# Altium schematic symbol library converter.SchLib: 61 symbols (part 2 of 3)
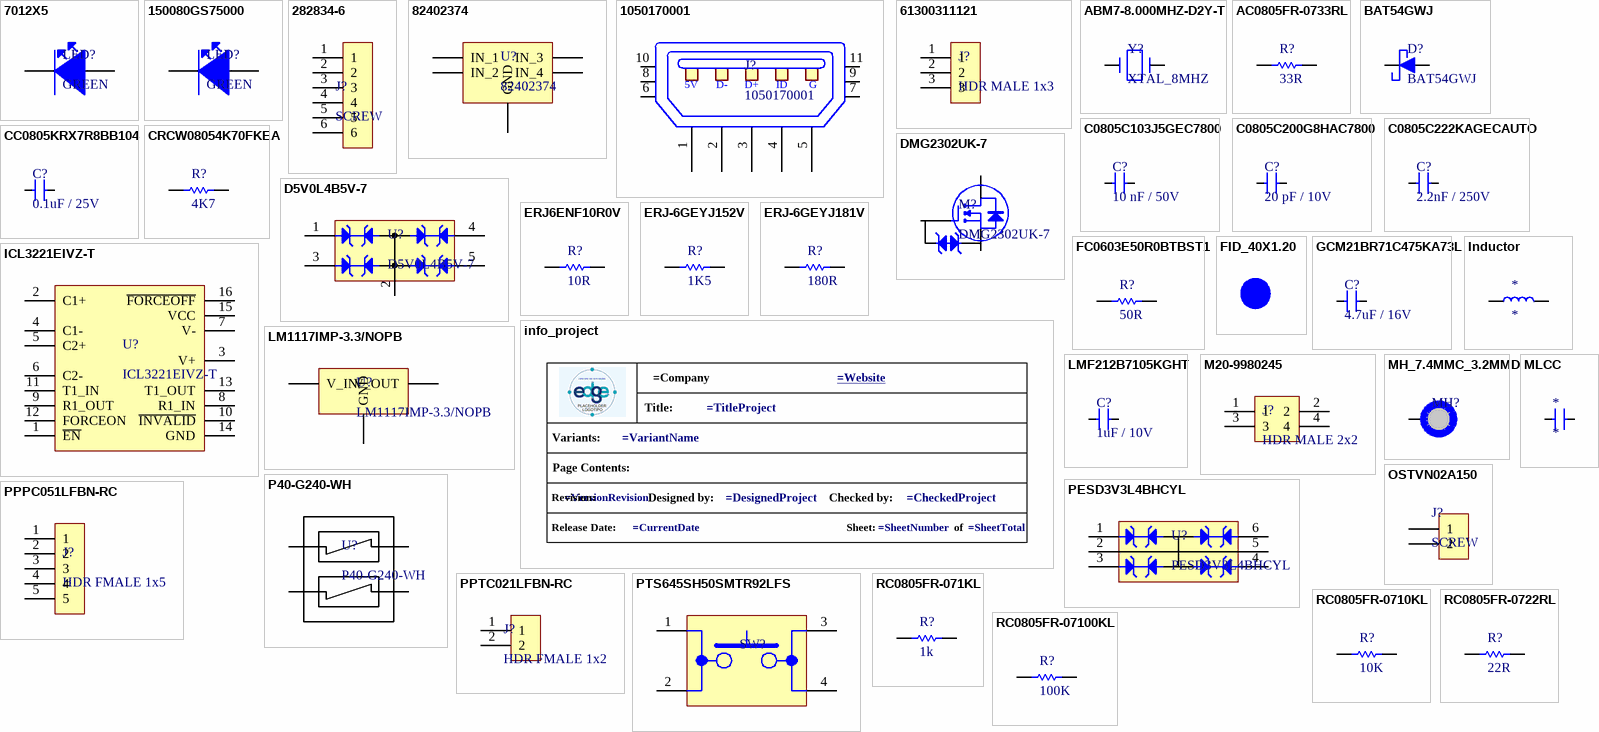
[diagram p2: symbols 7012X5 to RC0805FR-07100KL]

## OSTVN02A150
designator J?, comment SCREW
TERM BLK 2P SIDE 2.54MM; Manufacturer: On-Shore Technology; Manufacturer Part Number: OSTVN02A150; Plating: Brass,Steel; Number of Levels: 1; Number of Positions Per Level: 2; Current: 6A; Voltage: 125V; Wire Gauge (Max): 30AWG; Wire Gauge (Min): 20AWG; Pitch: 0.1inch; Supplier 1: Digi-Key; RoHS: Yes; Category: Terminal Blocks; Stock 1: 47511; Pricing 1: 1=0.92000, 10=0.57400, 25=0.49080, 50=0.44120, 100=0.43200, 250=0.36764, 500=0.34926, 1000=0.31249, 5000=0.24448 (USD); Mount: Through Hole; Number of Pins: 2; Color: Green; Contact Plating: Brass; Housing Material: Thermoplastic; Min Operating Temperature: -30°C; Max Operating Temperature: 105°C; Packaging: Bulk; Termination: Screw; Series: OSTVN; RoHS Compliant: Yes; ComponentLink1URL: https://datasheet.ciiva.com/823/ostvnxxa150-823935.pdf?src-supplier=Digi-Key; ComponentLink1Description: https://datasheet.ciiva.com/823/ostvnxxa150-823935.pdf?src-supplier=Digi-Key; Supplier Part Number 1: ED10561-ND
footprint SCREW
pins: 1, 2

## P40-G240-WH
designator U?
TBU 240MA 40VIMP; Manufacturer: Bourns; Number of Terminals/Pins: 6; Working Voltage: 28V; Number of Circuits: 2; Voltage Rating: 40V; Output Current: 480mA; Quiescent Current: 700uA; Response Time: 200ns; Approvals: UL; Supplier 1: Digi-Key; Manufacturer Part Number: P40-G240-WH; RoHS: Yes; Category: Circuit Protection; Stock 1: 7844; Pricing 1: 1=1.42000, 10=1.26600, 100=0.98670, 500=0.81510, 1000=0.64350 (USD); Mount: Surface Mount; Case/Package: DFN; Number of Pins: 6; Min Operating Temperature: -40°C; Max Operating Temperature: 85°C; Package Quantity: 3000; Packaging: Tape and Reel; Series: TBU®; Current Rating: 240mA; Max Surge Current: 240mA; Max Output Current: 480mA; Termination: SMD/SMT; Voltage Rating (DC): 28V; Length: 4mm; Width: 4mm; Height: 0.85mm; Depth: 4.1mm; REACH SVHC: No SVHC; RoHS Compliant: Yes; ComponentLink1URL: https://datasheet.ciiva.com/329/p40-g-329718.pdf?src-supplier=Digi-Key; ComponentLink1Description: https://datasheet.ciiva.com/329/p40-g-329718.pdf?src-supplier=Digi-Key; ComponentLink2URL: https://datasheet.ciiva.com/4503/p40-g-69647-4503607.pdf?src-supplier=Mouser; ComponentLink2Description: https://datasheet.ciiva.com/4503/p40-g-69647-4503607.pdf?src-supplier=Mouser; ComponentLink3URL: https://datasheet.ciiva.com/1290/337271-1290116.pdf?src-supplier=Element14; ComponentLink3Description: https://datasheet.ciiva.com/1290/337271-1290116.pdf?src-supplier=Element14; ComponentLink4URL: https://datasheet.ciiva.com/329/p40-g-329719.pdf?src-supplier=Digi-Key; ComponentLink4Description: https://datasheet.ciiva.com/329/p40-g-329719.pdf?src-supplier=Digi-Key; ComponentLink5URL: https://datasheet.ciiva.com/329/p40-g-329720.pdf?src-supplier=Digi-Key; ComponentLink5Description: https://datasheet.ciiva.com/329/p40-g-329720.pdf?src-supplier=Digi-Key; ComponentLink6URL: https://datasheet.ciiva.com/3011/p40-g-3011993.pdf?src-supplier=Avnet; ComponentLink6Description: https://datasheet.ciiva.com/3011/p40-g-3011993.pdf?src-supplier=Avnet; Supplier Part Number 1: P40-G240-WHCT-ND
footprint TBU - P40-G240-WH
pins: 1, 3, 4, 6

## PESD3V3L4BHCYL
designator U?
ESD TVS DIODE VRWM - 3V3 / VBR - 6.7-8.5V /; Manufacturer: Nexperia; Supplier 1: Digi-Key; Manufacturer Part Number: PESD3V3L4BHCYL; RoHS: No; Category: TVS Diodes; Stock 1: 14700; Pricing 1: 1=0,39000, 10=0,31400, 25=0,28720, 100=0,21370, 250=0,19368, 500=0,16028, 1000=0,12020, 2500=0,11019, 5000=0,10395 (USD); Supplier Part Number 1: 1727-8586-1-ND
footprint PESD3V3L4BHCYL
pins: 1, 2, 3, 4, 5, 6

## PPPC051LFBN-RC
designator J?, comment HDR FMALE 1x5
HDR FMALE 1x5 100mil; Manufacturer: Sullins; Manufacturer Part Number: PPPC051LFBN-RC; Number of Positions: 5; Connector Type: Header; Pitch: 0.1inch; Supplier 1: Digi-Key; RoHS: Yes; Category: Connectors; Stock 1: 10231; Pricing 1: 1=0.49000, 10=0.45900, 80=0.35188, 440=0.30600, 1000=0.25245, 5000=0.22185, 10000=0.20655 (USD); Mount: Through Hole; Color: Black; Contact Plating: Gold; Contact Material: Bronze; Housing Material: Plastic; Package Quantity: 1000; Number of Rows: 1; Packaging: Bulk; Termination: Solder; Contact Type: Female Socket; Length: 13.2mm; Width: 2.5mm; Height: 8.5mm; Lead Free: Lead Free; RoHS Compliant: Yes; ComponentLink1URL: https://media.digikey.com/pdf/Data%20Sheets/Sullins%20PDFs/Female_Headers.100_DS.pdf?src-supplier=Digi-Key; ComponentLink1Description: https://media.digikey.com/pdf/Data%20Sheets/Sullins%20PDFs/Female_Headers.100_DS.pdf?src-supplier=Digi-Key; ComponentLink2URL: http://www.sullinscorp.com/catalogs/78_Page80-81_HEADER_.100_2.54mm_FEMALE.pdf?src-supplier=Future+Electronics; ComponentLink2Description: http://www.sullinscorp.com/catalogs/78_Page80-81_HEADER_.100_2.54mm_FEMALE.pdf?src-supplier=Future+Electronics; Supplier Part Number 1: S7038-ND
footprint HDR FMALE 1x5
pins: 1, 2, 3, 4, 5

## PPTC021LFBN-RC
designator J?, comment HDR FMALE 1x2
HDR FMALE 1x2  100mil; Manufacturer: Sullins; Manufacturer Part Number: PPTC021LFBN-RC; Number of Positions: 2; Connector Type: Header; Pitch: 0.1inch; Supplier 1: Digi-Key; RoHS: Yes; Category: Connectors; Stock 1: 111670; Pricing 1: 1=0.32000, 10=0.30600, 100=0.21390, 500=0.18332, 1000=0.15278, 5000=0.13095, 10000=0.12222 (USD); Mount: Through Hole; Color: Black; Contact Plating: Tin; Contact Material: Bronze; Housing Material: Plastic; Package Quantity: 1000; Number of Rows: 1; Packaging: Bulk; Termination: Solder; Contact Type: Female Socket; Length: 5.58mm; Width: 2.5mm; Height: 8.5mm; Lead Free: Lead Free; RoHS Compliant: Yes; ComponentLink1URL: https://media.digikey.com/pdf/Data%20Sheets/Sullins%20PDFs/Female_Headers.100_DS.pdf?src-supplier=Digi-Key; ComponentLink1Description: https://media.digikey.com/pdf/Data%20Sheets/Sullins%20PDFs/Female_Headers.100_DS.pdf?src-supplier=Digi-Key; ComponentLink2URL: http://www.sullinscorp.com/catalogs/78_Page80-81_HEADER_.100_2.54mm_FEMALE.pdf?src-supplier=Future+Electronics; ComponentLink2Description: http://www.sullinscorp.com/catalogs/78_Page80-81_HEADER_.100_2.54mm_FEMALE.pdf?src-supplier=Future+Electronics; Supplier Part Number 1: S7000-ND
footprint HDR FMALE 1x2
pins: 1, 2

## PTS645SH50SMTR92LFS
designator SW?
SWITCH TACTILE 0.05A 12V; Manufacturer: ITT C&K; Manufacturer Part Number: PTS645SH50SMTR92LFS; Mechanical Life: 100000Cycles; Actuator Material: Nylon,Polyamide,PA66; Operating Force: 200gf; Throw Configuration: SPST; Current Rating: 50mA; Illumination Type: Non-Illuminated,Illuminated; Switch Function: Off-Mom; Actuator Type: Standard; Supplier 1: Digi-Key; RoHS: Yes; Category: Tactile Switches; Stock 1: 211938; Pricing 1: 1=0,25000, 10=0,24200, 25=0,22960, 100=0,20780, 250=0,18944, 500=0,17610 (USD); Mount: Surface Mount; Case/Package: SMD/SMT; Contact Plating: Silver; Contact Material: Bronze; Color: Black; Min Operating Temperature: -20°C; Max Operating Temperature: 60°C; Packaging: Tape and Reel; Max Voltage Rating (DC): 12V; Termination: Gull Wing; Voltage Rating (DC): 12V; Package Quantity: 1000; Max Current Rating: 50mA; Orientation: Straight; Series: PTS645; Length: 6mm; Depth: 9mm; Lead Free: Lead Free; REACH SVHC: No SVHC; ComponentLink1URL: https://datasheet.ciiva.com/29903/getdatasheetpartid-773702-29903807.pdf?src-supplier=Verical; ComponentLink1Description: https://datasheet.ciiva.com/29903/getdatasheetpartid-773702-29903807.pdf?src-supplier=Verical; ComponentLink2URL: https://datasheet.ciiva.com/14920/pts645-14920741.pdf?src-supplier=Digi-Key; ComponentLink2Description: https://datasheet.ciiva.com/14920/pts645-14920741.pdf?src-supplier=Digi-Key; ComponentLink3URL: https://datasheet.ciiva.com/22637/1707731-22637356.pdf?src-supplier=Element14; ComponentLink3Description: https://datasheet.ciiva.com/22637/1707731-22637356.pdf?src-supplier=Element14; Supplier Part Number 1: CKN9085CT-ND
footprint PTS645SH50SMTR92-LFS
pins: 1, 2, 3, 4

## RC0805FR-071KL
designator R?, comment 1k
RES - 1K 1/8W 0805 1%; Manufacturer: Yageo; Manufacturer Part Number: RC0805FR-071KL; Resistance: 1kR; Temperature Coefficient: 100ppm/°C; Voltage Rating (DC): 150V; Power Rating: 125mW; Supplier 1: Digi-Key; RoHS: Yes; Category: Chip SMD Resistors; Stock 1: 7991149; Pricing 1: 1=0,10000, 10=0,04200, 100=0,01690, 1000=0,00759, 2500=0,00659 (USD); Case/Package: 0805; Number of Pins: 2; Case Code (Metric): 2012; Case Code (Imperial): 0805; Size Code: 0805; Min Operating Temperature: -55°C; Max Operating Temperature: 155°C; Tolerance: 1%; Resistor Type: Thick Film; Packaging: Tape and Reel; Package Quantity: 1; Voltage Rating: 150V; Number of Terminations: 2; Termination: SMD/SMT; Max Power Dissipation: 125mW; Features: Moisture Resistant; Series: RC; Resistance Tolerance: 1%; Construction: Rectangular; Length: 0.079inch; Width: 0.049inch; Height: 0.024inch; Depth: 1.25mm; REACH SVHC: Unknown; Lead Free: Lead Free; RoHS Compliant: Yes; Military Standard: Not; ComponentLink1URL: https://datasheet.ciiva.com/46385/444164-46385020.pdf?src-supplier=Element14; ComponentLink1Description: https://datasheet.ciiva.com/46385/444164-46385020.pdf?src-supplier=Element14; ComponentLink2URL: https://datasheet.ciiva.com/2456/pyu-r-int-thick-7-2456975.pdf?src-supplier=Digi-Key; ComponentLink2Description: https://datasheet.ciiva.com/2456/pyu-r-int-thick-7-2456975.pdf?src-supplier=Digi-Key; ComponentLink3URL: https://datasheet.ciiva.com/2456/pyu-r-int-thick-7-2456976.pdf?src-supplier=Digi-Key; ComponentLink3Description: https://datasheet.ciiva.com/2456/pyu-r-int-thick-7-2456976.pdf?src-supplier=Digi-Key; ComponentLink4URL: https://datasheet.ciiva.com/2456/pyu-r-int-thick-7-2456977.pdf?src-supplier=Digi-Key; ComponentLink4Description: https://datasheet.ciiva.com/2456/pyu-r-int-thick-7-2456977.pdf?src-supplier=Digi-Key; ComponentLink5URL: https://datasheet.ciiva.com/16850/rc0805-16850409.pdf?src-supplier=Future+Electronics; ComponentLink5Description: https://datasheet.ciiva.com/16850/rc0805-16850409.pdf?src-supplier=Future+Electronics; ComponentLink6URL: https://datasheet.ciiva.com/7941/1686128-7941719.pdf?src-supplier=Element14; ComponentLink6Description: https://datasheet.ciiva.com/7941/1686128-7941719.pdf?src-supplier=Element14; Supplier Part Number 1: 311-1.00KCRCT-ND
footprint R0805
pins: 1, 2

## RC0805FR-0710KL
designator R?, comment 10K
RES - 10K  1/8W 0805 1%; Manufacturer: Yageo; Manufacturer Part Number: RC0805FR-0710KL; Resistance: 10kR; Temperature Coefficient: 100ppm/°C; Power Rating: 125mW; Voltage Rating: 150V; Supplier 1: Digi-Key; RoHS: Yes; Category: Chip SMD Resistors; Stock 1: 5866675; Pricing 1: 1=0,10000, 10=0,04200, 100=0,01690, 1000=0,00759, 2500=0,00659 (USD); Case/Package: 0805; Case Code (Imperial): 0805; Case Code (Metric): 2012; Size Code: 0805; Min Operating Temperature: -55°C; Max Operating Temperature: 155°C; Tolerance: 1%; Resistor Type: Thick Film; Packaging: Tape and Reel; Package Quantity: 1; Termination: SMD/SMT; Number of Terminations: 2; Max Power Dissipation: 125mW; Features: Moisture Resistant; Series: RC; Construction: Rectangular; Resistance Tolerance: 1%; Technology: THICK FILM; Length: 2mm; Width: 0.049inch; Height: 0.024inch; Depth: 1.25mm; REACH SVHC: Unknown; Military Standard: Not; Lead Free: Lead Free; RoHS Compliant: Yes; ComponentLink1URL: https://datasheet.ciiva.com/11808/0900766b8106beab-11808151.pdf?src-supplier=RSComponents; ComponentLink1Description: https://datasheet.ciiva.com/11808/0900766b8106beab-11808151.pdf?src-supplier=RSComponents; ComponentLink2URL: https://datasheet.ciiva.com/12669/rc0805-12669688.pdf?src-supplier=Mouser; ComponentLink2Description: https://datasheet.ciiva.com/12669/rc0805-12669688.pdf?src-supplier=Mouser; ComponentLink3URL: https://datasheet.ciiva.com/2456/pyu-r-int-thick-7-2456974.pdf?src-supplier=Digi-Key; ComponentLink3Description: https://datasheet.ciiva.com/2456/pyu-r-int-thick-7-2456974.pdf?src-supplier=Digi-Key; ComponentLink4URL: https://datasheet.ciiva.com/2456/pyu-r-int-thick-7-2456972.pdf?src-supplier=Digi-Key; ComponentLink4Description: https://datasheet.ciiva.com/2456/pyu-r-int-thick-7-2456972.pdf?src-supplier=Digi-Key; ComponentLink5URL: https://datasheet.ciiva.com/2456/pyu-r-int-thick-7-2456973.pdf?src-supplier=Digi-Key; ComponentLink5Description: https://datasheet.ciiva.com/2456/pyu-r-int-thick-7-2456973.pdf?src-supplier=Digi-Key; ComponentLink6URL: https://datasheet.ciiva.com/16747/rc0805-16747087.pdf?src-supplier=Future+Electronics; ComponentLink6Description: https://datasheet.ciiva.com/16747/rc0805-16747087.pdf?src-supplier=Future+Electronics; ComponentLink7URL: https://datasheet.ciiva.com/46447/444164-46447563.pdf?src-supplier=Element14; ComponentLink7Description: https://datasheet.ciiva.com/46447/444164-46447563.pdf?src-supplier=Element14; Supplier Part Number 1: 311-10.0KCRCT-ND
footprint R0805
pins: 1, 2

## RC0805FR-0722RL
designator R?, comment 22R
RES - 22R 1/8W 0805 1%; Manufacturer: Yageo; Manufacturer Part Number: RC0805FR-0722RL; Temperature Coefficient: 100ppm/°C; Power Rating: 125mW; Voltage Rating: 150V; Supplier 1: Digi-Key; RoHS: Yes; Category: Chip SMD Resistors; Stock 1: 534010; Pricing 1: 1=0,10000, 10=0,04200, 100=0,01690, 1000=0,00759, 2500=0,00659 (USD); Case/Package: 0805; Case Code (Metric): 2012; Case Code (Imperial): 0805; Min Operating Temperature: -55°C; Max Operating Temperature: 155°C; Resistor Type: Thick Film; Resistance: 22R; Tolerance: 1%; Packaging: Tape and Reel; Package Quantity: 1; Number of Terminations: 2; Termination: SMD/SMT; Max Power Dissipation: 125mW; Working Voltage: 150V; Features: Moisture Resistant; Series: RC; Resistance Tolerance: 1%; Construction: Rectangular; Technology: THICK FILM; Length: 0.079inch; Width: 0.049inch; Height: 0.024inch; Depth: 1.25mm; RoHS Compliant: Yes; REACH SVHC: Unknown; Military Standard: Not; Lead Free: Lead Free; ComponentLink1URL: https://datasheet.ciiva.com/11819/0900766b8106beab-11819837.pdf?src-supplier=RSComponents; ComponentLink1Description: https://datasheet.ciiva.com/11819/0900766b8106beab-11819837.pdf?src-supplier=RSComponents; ComponentLink2URL: https://datasheet.ciiva.com/46447/444164-46447574.pdf?src-supplier=Element14; ComponentLink2Description: https://datasheet.ciiva.com/46447/444164-46447574.pdf?src-supplier=Element14; ComponentLink3URL: https://datasheet.ciiva.com/2457/pyu-r-int-thick-7-2457045.pdf?src-supplier=Digi-Key; ComponentLink3Description: https://datasheet.ciiva.com/2457/pyu-r-int-thick-7-2457045.pdf?src-supplier=Digi-Key; ComponentLink4URL: https://datasheet.ciiva.com/2457/pyu-r-int-thick-7-2457046.pdf?src-supplier=Digi-Key; ComponentLink4Description: https://datasheet.ciiva.com/2457/pyu-r-int-thick-7-2457046.pdf?src-supplier=Digi-Key; ComponentLink5URL: https://datasheet.ciiva.com/2457/pyu-r-int-thick-7-2457044.pdf?src-supplier=Digi-Key; ComponentLink5Description: https://datasheet.ciiva.com/2457/pyu-r-int-thick-7-2457044.pdf?src-supplier=Digi-Key; ComponentLink6URL: https://datasheet.ciiva.com/12667/rc0805-12667371.pdf?src-supplier=Mouser; ComponentLink6Description: https://datasheet.ciiva.com/12667/rc0805-12667371.pdf?src-supplier=Mouser; Supplier Part Number 1: 311-22.0CRCT-ND
footprint R0805
pins: 1, 2

## RC0805FR-07100KL
designator R?, comment 100K
RES - 100K 1/8W 0805 1%; Manufacturer: Yageo; Manufacturer Part Number: RC0805FR-07100KL; Resistance: 100kR; Temperature Coefficient: 100ppm/°C; Power Rating: 125mW; Voltage Rating (DC): 150V; Supplier 1: Digi-Key; RoHS: Yes; Category: Chip SMD Resistors; Stock 1: 650822; Pricing 1: 1=0,10000, 10=0,04200, 100=0,01690, 1000=0,00759, 2500=0,00659 (USD); Case/Package: 0805; Number of Pins: 2; Case Code (Metric): 2012; Case Code (Imperial): 0805; Size Code: 0805; Min Operating Temperature: -55°C; Max Operating Temperature: 155°C; Resistor Type: Thick Film; Tolerance: 1%; Packaging: Tape and Reel; Voltage Rating: 150V; Package Quantity: 1; Number of Terminations: 2; Termination: SMD/SMT; Max Power Dissipation: 125mW; Features: Moisture Resistant; Series: RC; Construction: Rectangular; Resistance Tolerance: 1%; Technology: THICK FILM; Length: 2mm; Width: 0.049inch; Height: 0.024inch; Depth: 1.25mm; Lead Pitch: 0.4mm; REACH SVHC: Unknown; Lead Free: Lead Free; RoHS Compliant: Yes; Military Standard: Not; ComponentLink1URL: https://datasheet.ciiva.com/11808/0900766b8106beab-11808858.pdf?src-supplier=RSComponents; ComponentLink1Description: https://datasheet.ciiva.com/11808/0900766b8106beab-11808858.pdf?src-supplier=RSComponents; ComponentLink2URL: https://datasheet.ciiva.com/7941/1686128-7941677.pdf?src-supplier=Element14; ComponentLink2Description: https://datasheet.ciiva.com/7941/1686128-7941677.pdf?src-supplier=Element14; ComponentLink3URL: https://datasheet.ciiva.com/7660/38627-7660796.pdf?src-supplier=Element14; ComponentLink3Description: https://datasheet.ciiva.com/7660/38627-7660796.pdf?src-supplier=Element14; ComponentLink4URL: https://datasheet.ciiva.com/22747/444164-22747534.pdf?src-supplier=Element14; ComponentLink4Description: https://datasheet.ciiva.com/22747/444164-22747534.pdf?src-supplier=Element14; ComponentLink5URL: https://datasheet.ciiva.com/2457/pyu-r-int-thick-7-2457018.pdf?src-supplier=Digi-Key; ComponentLink5Description: https://datasheet.ciiva.com/2457/pyu-r-int-thick-7-2457018.pdf?src-supplier=Digi-Key; ComponentLink6URL: https://datasheet.ciiva.com/2457/pyu-r-int-thick-7-2457019.pdf?src-supplier=Digi-Key; ComponentLink6Description: https://datasheet.ciiva.com/2457/pyu-r-int-thick-7-2457019.pdf?src-supplier=Digi-Key; ComponentLink7URL: https://datasheet.ciiva.com/2457/pyu-r-int-thick-7-2457017.pdf?src-supplier=Digi-Key; ComponentLink7Description: https://datasheet.ciiva.com/2457/pyu-r-int-thick-7-2457017.pdf?src-supplier=Digi-Key; ComponentLink8URL: https://datasheet.ciiva.com/12667/rc0805-12667001.pdf?src-supplier=Mouser; ComponentLink8Description: https://datasheet.ciiva.com/12667/rc0805-12667001.pdf?src-supplier=Mouser; ComponentLink9URL: https://datasheet.ciiva.com/7941/1697719-7941676.pdf?src-supplier=Element14; ComponentLink9Description: https://datasheet.ciiva.com/7941/1697719-7941676.pdf?src-supplier=Element14; ComponentLink10URL: https://datasheet.ciiva.com/7941/1697719-7941678.pdf?src-supplier=Element14; ComponentLink10Description: https://datasheet.ciiva.com/7941/1697719-7941678.pdf?src-supplier=Element14; ComponentLink11URL: https://datasheet.ciiva.com/16747/rc0805-16747226.pdf?src-supplier=Future+Electronics; ComponentLink11Description: https://datasheet.ciiva.com/16747/rc0805-16747226.pdf?src-supplier=Future+Electronics; Supplier Part Number 1: 311-100KCRCT-ND
footprint R0805
pins: 1, 2

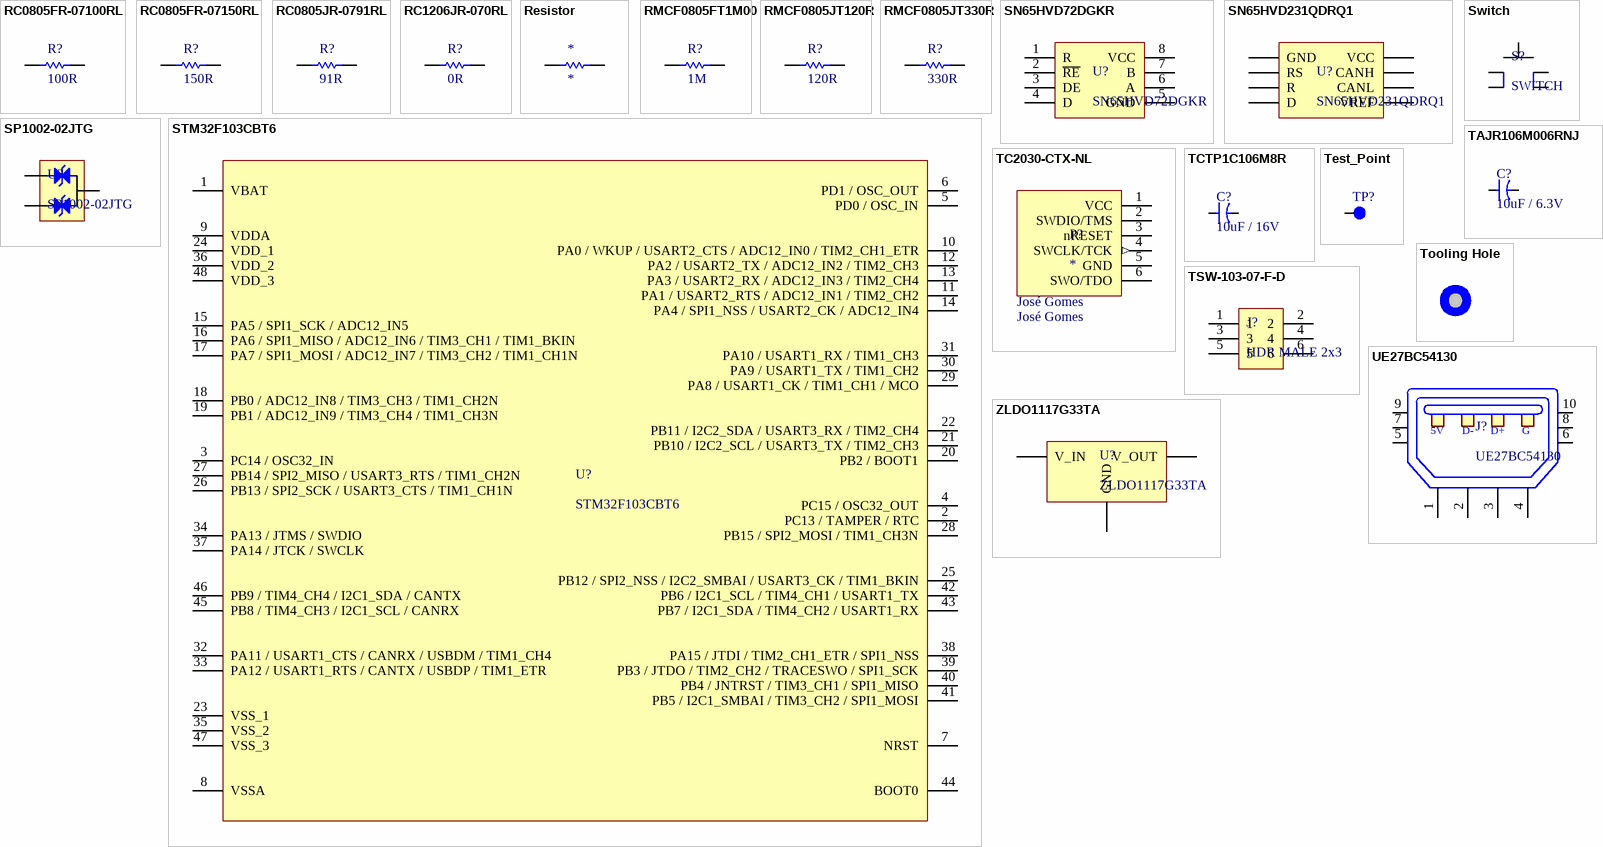
[diagram p1: symbols RC0805FR-07100RL to ZLDO1117G33TA]

## RC0805FR-07100RL
designator R?, comment 100R
RES - 100R 1/8W 0805 1%; Manufacturer: Yageo; Manufacturer Part Number: RC0805FR-07100RL; Temperature Coefficient: 100ppm/°C; Voltage Rating (DC): 150V; Power Rating: 125mW; Application(s): HIGH RELIABILITY; Supplier 1: Digi-Key; RoHS: Yes; Category: Chip SMD Resistors; Stock 1: 881028; Pricing 1: 1=0,10000, 10=0,04200, 100=0,01690, 1000=0,00759, 2500=0,00659 (USD); Case/Package: 0805; Number of Pins: 2; Case Code (Imperial): 0805; Case Code (Metric): 2012; Weight: 0.000917oz; Min Operating Temperature: -55°C; Max Operating Temperature: 155°C; Resistance: 100R; Tolerance: 1%; Resistor Type: Thick Film; Packaging: Cut Tape; Voltage Rating: 150V; Package Quantity: 5000; Termination: SMD/SMT; Number of Terminations: 2; Max Power Dissipation: 125mW; Features: Moisture Resistant; Type: General Purpose; Series: RC; Technology: THICK FILM; Length: 2mm; Width: 1.25mm; Height: 0.5mm; Depth: 1.25mm; Lead Pitch: 0.4mm; REACH SVHC: Unknown; Lead Free: Lead Free; Military Standard: Not; RoHS Compliant: Yes; ComponentLink1URL: https://datasheet.ciiva.com/11808/0900766b8106beab-11808877.pdf?src-supplier=RSComponents; ComponentLink1Description: https://datasheet.ciiva.com/11808/0900766b8106beab-11808877.pdf?src-supplier=RSComponents; ComponentLink2URL: https://datasheet.ciiva.com/7941/1697719-7941680.pdf?src-supplier=Element14; ComponentLink2Description: https://datasheet.ciiva.com/7941/1697719-7941680.pdf?src-supplier=Element14; ComponentLink3URL: https://datasheet.ciiva.com/7941/1686128-7941679.pdf?src-supplier=Element14; ComponentLink3Description: https://datasheet.ciiva.com/7941/1686128-7941679.pdf?src-supplier=Element14; ComponentLink4URL: https://datasheet.ciiva.com/7660/38627-7660797.pdf?src-supplier=Element14; ComponentLink4Description: https://datasheet.ciiva.com/7660/38627-7660797.pdf?src-supplier=Element14; ComponentLink5URL: https://datasheet.ciiva.com/22747/444164-22747535.pdf?src-supplier=Element14; ComponentLink5Description: https://datasheet.ciiva.com/22747/444164-22747535.pdf?src-supplier=Element14; ComponentLink6URL: https://datasheet.ciiva.com/46447/444164-46447562.pdf?src-supplier=Element14; ComponentLink6Description: https://datasheet.ciiva.com/46447/444164-46447562.pdf?src-supplier=Element14; ComponentLink7URL: https://datasheet.ciiva.com/2456/pyu-r-int-thick-7-2456988.pdf?src-supplier=Digi-Key; ComponentLink7Description: https://datasheet.ciiva.com/2456/pyu-r-int-thick-7-2456988.pdf?src-supplier=Digi-Key; ComponentLink8URL: https://datasheet.ciiva.com/2456/pyu-r-int-thick-7-2456989.pdf?src-supplier=Digi-Key; ComponentLink8Description: https://datasheet.ciiva.com/2456/pyu-r-int-thick-7-2456989.pdf?src-supplier=Digi-Key; ComponentLink9URL: https://datasheet.ciiva.com/2456/pyu-r-int-thick-7-2456987.pdf?src-supplier=Digi-Key; ComponentLink9Description: https://datasheet.ciiva.com/2456/pyu-r-int-thick-7-2456987.pdf?src-supplier=Digi-Key; ComponentLink10URL: https://datasheet.ciiva.com/17082/rc0805-17082697.pdf?src-supplier=Future+Electronics; ComponentLink10Description: https://datasheet.ciiva.com/17082/rc0805-17082697.pdf?src-supplier=Future+Electronics; Supplier Part Number 1: 311-100CRCT-ND
footprint R0805
pins: 1, 2

## RC0805FR-07150RL
designator R?, comment 150R
RES - 150R 1/8W 0805 1%; Manufacturer: Yageo; Manufacturer Part Number: RC0805FR-07150RL; Power Rating: 125mW; Voltage Rating: 150V; Temperature Coefficient: 100ppm/°C; Supplier 1: Digi-Key; RoHS: Yes; Category: Chip SMD Resistors; Stock 1: 494590; Pricing 1: 1=0,10000, 10=0,04200, 100=0,01690, 1000=0,00759, 2500=0,00659 (USD); Case/Package: 0805; Number of Pins: 2; Case Code (Metric): 2012; Case Code (Imperial): 0805; Size Code: 0805; Min Operating Temperature: -55°C; Max Operating Temperature: 155°C; Resistance: 150R; Tolerance: 1%; Voltage Rating (DC): 150V; Package Quantity: 1; Packaging: Tape and Reel; Resistor Type: Thick Film; Number of Terminations: 2; Termination: SMD/SMT; Max Power Dissipation: 125mW; Features: Moisture Resistant; Series: RC; Resistance Tolerance: 1%; Technology: THICK FILM; Construction: Rectangular; Length: 2mm; Width: 0.049inch; Height: 0.024inch; Depth: 1.25mm; REACH SVHC: Unknown; Military Standard: Not; Lead Free: Lead Free; RoHS Compliant: Yes; ComponentLink1URL: https://datasheet.ciiva.com/11819/0900766b8106beab-11819782.pdf?src-supplier=RSComponents; ComponentLink1Description: https://datasheet.ciiva.com/11819/0900766b8106beab-11819782.pdf?src-supplier=RSComponents; ComponentLink2URL: https://datasheet.ciiva.com/2456/pyu-r-int-thick-7-2456999.pdf?src-supplier=Digi-Key; ComponentLink2Description: https://datasheet.ciiva.com/2456/pyu-r-int-thick-7-2456999.pdf?src-supplier=Digi-Key; ComponentLink3URL: https://datasheet.ciiva.com/2457/pyu-r-int-thick-7-2457000.pdf?src-supplier=Digi-Key; ComponentLink3Description: https://datasheet.ciiva.com/2457/pyu-r-int-thick-7-2457000.pdf?src-supplier=Digi-Key; ComponentLink4URL: https://datasheet.ciiva.com/2457/pyu-r-int-thick-7-2457001.pdf?src-supplier=Digi-Key; ComponentLink4Description: https://datasheet.ciiva.com/2457/pyu-r-int-thick-7-2457001.pdf?src-supplier=Digi-Key; ComponentLink5URL: https://datasheet.ciiva.com/12668/rc0805-12668251.pdf?src-supplier=Mouser; ComponentLink5Description: https://datasheet.ciiva.com/12668/rc0805-12668251.pdf?src-supplier=Mouser; ComponentLink6URL: https://datasheet.ciiva.com/46447/444164-46447566.pdf?src-supplier=Element14; ComponentLink6Description: https://datasheet.ciiva.com/46447/444164-46447566.pdf?src-supplier=Element14; ComponentLink7URL: https://datasheet.ciiva.com/7660/38627-7660798.pdf?src-supplier=Element14; ComponentLink7Description: https://datasheet.ciiva.com/7660/38627-7660798.pdf?src-supplier=Element14; Supplier Part Number 1: 311-150CRCT-ND
footprint R0805
pins: 1, 2

## RC0805JR-0791RL
designator R?, comment 91R
RES - 91R 1/8W 0805 5%; Manufacturer: Yageo; Manufacturer Part Number: RC0805JR-0791RL; Power Rating: 125mW; Voltage Rating: 150V; Temperature Coefficient: 100ppm/°C; Supplier 1: Digi-Key; RoHS: Yes; Category: Chip SMD Resistors; Stock 1: 135579; Pricing 1: 1=0,10000, 10=0,03600, 100=0,01450, 1000=0,00652, 2500=0,00566 (USD); Case/Package: 0805; Case Code (Imperial): 0805; Case Code (Metric): 2012; Weight: 0.000194oz; Size Code: 0805; Min Operating Temperature: -55°C; Max Operating Temperature: 155°C; Resistance: 91R; Tolerance: 5%; Packaging: Tape and Reel; Termination: SMD/SMT; Resistor Type: Thick Film; Voltage Rating (DC): 150V; Features: Moisture Resistant; Series: RC; Max Power Dissipation: 125mW; Number of Terminations: 2; Construction: Rectangular; Length: 2mm; Width: 1.25mm; Height: 0.5mm; Depth: 1.25mm; Military Standard: Not; Lead Free: Lead Free; RoHS Compliant: Yes; ComponentLink1URL: https://datasheet.ciiva.com/5562/rc0805-5562847.pdf?src-supplier=Mouser; ComponentLink1Description: https://datasheet.ciiva.com/5562/rc0805-5562847.pdf?src-supplier=Mouser; ComponentLink2URL: https://datasheet.ciiva.com/16745/rc0805-16745695.pdf?src-supplier=Future+Electronics; ComponentLink2Description: https://datasheet.ciiva.com/16745/rc0805-16745695.pdf?src-supplier=Future+Electronics; Supplier Part Number 1: 311-91ARCT-ND
footprint R0805
pins: 1, 2

## RC1206JR-070RL
designator R?, comment 0R
RES - 0R 1/4W 1206 5%; Manufacturer: Yageo; Manufacturer Part Number: RC1206JR-070RL; Resistance: 0mR; Power Rating: 250mW; Voltage Rating: 200V; Temperature Coefficient: 200ppm/°C; Supplier 1: Digi-Key; RoHS: Yes; Category: Chip SMD Resistors; Stock 1: 6773822; Pricing 1: 1=0.10000, 10=0.05500, 25=0.04000, 50=0.03040, 100=0.02240, 250=0.01712, 500=0.01368, 1000=0.01007 (USD); Case/Package: 1206; Contact Plating: Tin,Matte; Case Code (Metric): 3216; Case Code (Imperial): 1206; Size Code: 1206; Min Operating Temperature: -55°C; Max Operating Temperature: 155°C; Resistor Type: Thick Film,Carbon Film; Tolerance: 5%; Packaging: Tape and Reel; Package Quantity: 5000; Number of Terminations: 2; Termination: SMD/SMT; Max Power Dissipation: 250mW; Series: RC1206; Resistance Tolerance: 5%; Construction: Rectangular; Technology: THICK FILM; Length: 3.1mm; Width: 0.063inch; Height: 0.026inch; Depth: 1.6mm; Radiation Hardening: No; REACH SVHC: Unknown; Military Standard: Not; Lead Free: Lead Free; RoHS Compliant: Yes; ComponentLink1URL: https://datasheet.ciiva.com/11808/0900766b80c6630a-11808156.pdf?src-supplier=RSComponents; ComponentLink1Description: https://datasheet.ciiva.com/11808/0900766b80c6630a-11808156.pdf?src-supplier=RSComponents; ComponentLink2URL: https://datasheet.ciiva.com/29181/402222-da-01-en-smd-widerstand-0-ohm-1206-29181568.pdf?src-supplier=Conrad; ComponentLink2Description: https://datasheet.ciiva.com/29181/402222-da-01-en-smd-widerstand-0-ohm-1206-29181568.pdf?src-supplier=Conrad; ComponentLink3URL: https://datasheet.ciiva.com/2458/pyu-rc1206-51-rohs-l-4-2458668.pdf?src-supplier=Digi-Key; ComponentLink3Description: https://datasheet.ciiva.com/2458/pyu-rc1206-51-rohs-l-4-2458668.pdf?src-supplier=Digi-Key; ComponentLink4URL: https://datasheet.ciiva.com/2458/pyu-rc1206-51-rohs-l-4-2458669.pdf?src-supplier=Digi-Key; ComponentLink4Description: https://datasheet.ciiva.com/2458/pyu-rc1206-51-rohs-l-4-2458669.pdf?src-supplier=Digi-Key; ComponentLink5URL: https://datasheet.ciiva.com/2458/pyu-rc1206-51-rohs-l-4-2458670.pdf?src-supplier=Digi-Key; ComponentLink5Description: https://datasheet.ciiva.com/2458/pyu-rc1206-51-rohs-l-4-2458670.pdf?src-supplier=Digi-Key; ComponentLink6URL: https://datasheet.ciiva.com/7857/1692832-7857421.pdf?src-supplier=Element14; ComponentLink6Description: https://datasheet.ciiva.com/7857/1692832-7857421.pdf?src-supplier=Element14; ComponentLink7URL: https://datasheet.ciiva.com/17035/pyu-rc1206-51-rohs-l-4-17035512.pdf?src-supplier=Future+Electronics; ComponentLink7Description: https://datasheet.ciiva.com/17035/pyu-rc1206-51-rohs-l-4-17035512.pdf?src-supplier=Future+Electronics; ComponentLink8URL: https://datasheet.ciiva.com/46445/444357-46445719.pdf?src-supplier=Element14; ComponentLink8Description: https://datasheet.ciiva.com/46445/444357-46445719.pdf?src-supplier=Element14; ComponentLink9URL: https://datasheet.ciiva.com/7857/1692832-7857422.pdf?src-supplier=Element14; ComponentLink9Description: https://datasheet.ciiva.com/7857/1692832-7857422.pdf?src-supplier=Element14; ComponentLink10URL: https://datasheet.ciiva.com/7983/444357-7983807.pdf?src-supplier=Element14; ComponentLink10Description: https://datasheet.ciiva.com/7983/444357-7983807.pdf?src-supplier=Element14; ComponentLink11URL: https://datasheet.ciiva.com/22747/1692832-22747541.pdf?src-supplier=Element14; ComponentLink11Description: https://datasheet.ciiva.com/22747/1692832-22747541.pdf?src-supplier=Element14; Supplier Part Number 1: 311-0.0ERCT-ND
footprint R1206
pins: 1, 2

## Resistor
designator *
pins: 1, 2

## RMCF0805FT1M00
designator R?, comment 1M
RES - 1M 1/8W 0805 1%; Manufacturer: Stackpole Electronics; Manufacturer Part Number: RMCF0805FT1M00; Resistance: 1MR; Power Rating: 125mW; Temperature Coefficient: 100ppm/°C; Supplier 1: Digi-Key; RoHS: Yes; Category: Chip SMD Resistors; Stock 1: 412220; Pricing 1: 1=0,10000, 10=0,02700, 100=0,01090, 1000=0,00488, 2500=0,00423 (USD); Mount: Surface Mount; Case/Package: 0805; Case Code (Metric): 2012; Case Code (Imperial): 0805; Contact Plating: Tin,Matte; Size Code: 0805; Min Operating Temperature: -55°C; Max Operating Temperature: 155°C; Tolerance: 1%; Packaging: Tape and Reel; Resistor Type: Thick Film; Number of Terminations: 2; Max Power Dissipation: 125mW; Features: Automotive AEC-Q200; Series: RMCF; Construction: Rectangular; Length: 2mm; Width: 0.049inch; Height: 0.026inch; Depth: 1.25mm; Radiation Hardening: No; Military Standard: Not; Lead Free: Lead Free; RoHS Compliant: Yes; ComponentLink1URL: http://components.arrow.com/part/dataview/50575311S7171767N1174?src-supplier=Arrow+Electronics; ComponentLink1Description: http://components.arrow.com/part/dataview/50575311S7171767N1174?src-supplier=Arrow+Electronics; ComponentLink2URL: https://www.seielect.com/catalog/SEI-Packaging.pdf?src-supplier=Digi-Key; ComponentLink2Description: https://www.seielect.com/catalog/SEI-Packaging.pdf?src-supplier=Digi-Key; ComponentLink3URL: http://www.seielect.com/Catalog/SEI-rmc.pdf?src-supplier=Future+Electronics; ComponentLink3Description: http://www.seielect.com/Catalog/SEI-rmc.pdf?src-supplier=Future+Electronics; ComponentLink4URL: https://www.seielect.com/catalog/SEI-RMCF_RMCP.pdf?src-supplier=Avnet; ComponentLink4Description: https://www.seielect.com/catalog/SEI-RMCF_RMCP.pdf?src-supplier=Avnet; ComponentLink5URL: https://www.verical.com/server-webapp/html/getDatasheet?partID=366460&src-supplier=Verical; ComponentLink5Description: https://www.verical.com/server-webapp/html/getDatasheet?partID=366460&src-supplier=Verical; Supplier Part Number 1: RMCF0805FT1M00CT-ND
footprint R0805
pins: 1, 2

## RMCF0805JT120R
designator R?, comment 120R
RES - 120R 1/8W 0805 5%; Manufacturer: Stackpole Electronics; Manufacturer Part Number: RMCF0805JT120R; Max Power Dissipation: 125mW; Temperature Coefficient: 200ppm/°C; Supplier 1: Digi-Key; RoHS: Yes; Category: Chip SMD Resistors; Stock 1: 223393; Pricing 1: 1=0.10000, 10=0.02000, 100=0.00810, 1000=0.00366, 2500=0.00318 (USD); Mount: Surface Mount; Case/Package: 0805; Case Code (Metric): 2012; Case Code (Imperial): 0805; Contact Plating: Tin,Matte; Min Operating Temperature: -55°C; Max Operating Temperature: 155°C; Packaging: Tape and Reel; Resistance: 120R; Tolerance: 5%; Resistor Type: Thick Film; Number of Terminations: 2; Features: Automotive AEC-Q200; Series: RMCF; Construction: Rectangular; Length: 0.079inch; Width: 0.049inch; Height: 0.026inch; Depth: 1.25mm; Radiation Hardening: No; Military Standard: Not; Lead Free: Lead Free; RoHS Compliant: Yes; ComponentLink1URL: https://datasheet.ciiva.com/15193/getdatasheetpartid-409758-15193629.pdf?src-supplier=Verical; ComponentLink1Description: https://datasheet.ciiva.com/15193/getdatasheetpartid-409758-15193629.pdf?src-supplier=Verical; Supplier Part Number 1: RMCF0805JT120RCT-ND
footprint R0805
pins: 1, 2

## RMCF0805JT330R
designator R?, comment 330R
RES - 330R 1/8W 0805 5%; Manufacturer: Stackpole Electronics; Manufacturer Part Number: RMCF0805JT330R; Power Rating: 125mW; Temperature Coefficient: 200ppm/°C; Supplier 1: Digi-Key; RoHS: Yes; Category: Chip SMD Resistors; Stock 1: 260111; Pricing 1: 1=0,10000, 10=0,02000, 100=0,00810, 1000=0,00366, 2500=0,00318 (USD); Mount: Surface Mount; Case/Package: 0805; Case Code (Metric): 2012; Case Code (Imperial): 0805; Contact Plating: Tin,Matte; Size Code: 0805; Min Operating Temperature: -55°C; Max Operating Temperature: 155°C; Packaging: Tape and Reel; Resistance: 330R; Tolerance: 5%; Resistor Type: Thick Film; Number of Terminations: 2; Max Power Dissipation: 125mW; Features: Automotive AEC-Q200; Series: RMCF; Construction: Rectangular; Length: 2mm; Width: 0.049inch; Height: 0.026inch; Depth: 1.25mm; Radiation Hardening: No; Military Standard: Not; Lead Free: Lead Free; RoHS Compliant: Yes; ComponentLink1URL: http://components.arrow.com/part/dataview/44988371S7054774N1174?src-supplier=Arrow+Electronics; ComponentLink1Description: http://components.arrow.com/part/dataview/44988371S7054774N1174?src-supplier=Arrow+Electronics; ComponentLink2URL: https://www.seielect.com/catalog/SEI-Packaging.pdf?src-supplier=Digi-Key; ComponentLink2Description: https://www.seielect.com/catalog/SEI-Packaging.pdf?src-supplier=Digi-Key; ComponentLink3URL: https://www.seielect.com/Catalog/SEI-RMCF_RMCP.pdf?src-supplier=Avnet; ComponentLink3Description: https://www.seielect.com/Catalog/SEI-RMCF_RMCP.pdf?src-supplier=Avnet; ComponentLink4URL: https://www.verical.com/server-webapp/html/getDatasheet?partID=360139&src-supplier=Verical; ComponentLink4Description: https://www.verical.com/server-webapp/html/getDatasheet?partID=360139&src-supplier=Verical; ComponentLink5URL: http://www.seielect.com/Catalog/SEI-RMC.pdf?src-supplier=Future+Electronics; ComponentLink5Description: http://www.seielect.com/Catalog/SEI-RMC.pdf?src-supplier=Future+Electronics; Supplier Part Number 1: RMCF0805JT330RCT-ND
footprint R0805
pins: 1, 2

## SN65HVD72DGKR
designator U?
RS-485 TRANSCEIVER HVD7X; Manufacturer: Texas Instruments; Number of Receivers: 1; Operating Supply Voltage: 3.3V; Min Supply Voltage: 3V; Max Supply Voltage: 3.6V; Nominal Supply Current: 950uA; Output Current: 8mA; Output Voltage: 2V; Propagation Delay: 0.7us; Data Rate: 0.25Mbps; Simplex/Duplex: Half Duplex; Supplier 1: Digi-Key; Manufacturer Part Number: SN65HVD72DGKR; RoHS: Yes; Category: Interface ICs; Pricing 1: 1=4,03000 (USD); Case/Package: VSSOP; Number of Pins: 8; Min Operating Temperature: -40°C; Max Operating Temperature: 125°C; Number of Transmitters: 1; Package Quantity: 2500; Interface: RS-485; Packaging: Tape and Reel; Logic Function: Transceiver; Number of Drivers: 1; Number of Transceivers: 1; Supply Current: 950uA; Series: -; Radiation Hardening: No; REACH SVHC: No SVHC; Lead Free: Lead Free; ComponentLink1URL: https://datasheet.ciiva.com/28650/1787953-28650706.pdf?src-supplier=Element14; ComponentLink1Description: https://datasheet.ciiva.com/28650/1787953-28650706.pdf?src-supplier=Element14; ComponentLink2URL: https://datasheet.ciiva.com/26946/getdatasheetpartid-716725-26946073.pdf?src-supplier=Verical; ComponentLink2Description: https://datasheet.ciiva.com/26946/getdatasheetpartid-716725-26946073.pdf?src-supplier=Verical; ComponentLink3URL: https://datasheet.ciiva.com/41461/001187608-da-01-en-ic-txrx-rs485-sn65hvd72dgkr-vssop-8-tid-41461063.pdf?src-supplier=Conrad; ComponentLink3Description: https://datasheet.ciiva.com/41461/001187608-da-01-en-ic-txrx-rs485-sn65hvd72dgkr-vssop-8-tid-41461063.pdf?src-supplier=Conrad; ComponentLink4URL: https://datasheet.ciiva.com/6636/sn65hvd72-6636345.pdf?src-supplier=Digi-Key; ComponentLink4Description: https://datasheet.ciiva.com/6636/sn65hvd72-6636345.pdf?src-supplier=Digi-Key; ComponentLink5URL: https://datasheet.ciiva.com/6636/sn65hvd72-6636346.pdf?src-supplier=Digi-Key; ComponentLink5Description: https://datasheet.ciiva.com/6636/sn65hvd72-6636346.pdf?src-supplier=Digi-Key; ComponentLink6URL: https://datasheet.ciiva.com/6636/sn65hvd72-6636347.pdf?src-supplier=Digi-Key; ComponentLink6Description: https://datasheet.ciiva.com/6636/sn65hvd72-6636347.pdf?src-supplier=Digi-Key; ComponentLink7URL: https://datasheet.ciiva.com/14195/sn65hvd75-14195211.pdf?src-supplier=Avnet; ComponentLink7Description: https://datasheet.ciiva.com/14195/sn65hvd75-14195211.pdf?src-supplier=Avnet; ComponentLink8URL: https://datasheet.ciiva.com/24096/sn65hvd72-446416-24096821.pdf?src-supplier=Mouser; ComponentLink8Description: https://datasheet.ciiva.com/24096/sn65hvd72-446416-24096821.pdf?src-supplier=Mouser; Supplier Part Number 1: 296-SN65HVD72DGKRCT-ND
footprint RS485T
pins: 1 R, 2 ~{RE}, 3 DE, 4 D, 5 GND, 6 A, 7 B, 8 VCC

## SN65HVD231QDRQ1
designator U?
CAN TRANSCEIVER - 1/1 - 3.3V; Manufacturer: Texas Instruments; Data Rate: 1Mbps; Max Supply Voltage: 3.6V; Min Supply Voltage: 3V; Nominal Supply Current: 17mA; Number of Receive Buffers: 1; Supplier 1: Digi-Key; Manufacturer Part Number: SN65HVD231QDRQ1; RoHS: Yes; Category: Interface ICs; Stock 1: 4145; Pricing 1: 1=3,14000, 10=2,82000, 25=2,66640, 100=2,31090, 250=2,19240, 500=1,96724, 1000=1,95650 (USD); Case/Package: D; Number of Pins: 8; Weight: 0.002561oz; Contact Plating: Gold; Min Operating Temperature: -40°C; Max Operating Temperature: 125°C; Operating Supply Voltage: 3.3V; Packaging: Tape and Reel; Package Quantity: 1; Number of Transmit Buffers: 1; Number of Transceivers: 1; Max Supply Current: 17mA; Number of Drivers: 1; Number of Receivers: 1; Series: -; Supply Current: 17mA; Radiation Hardening: No; REACH SVHC: No SVHC; Lead Free: Lead Free; RoHS Compliant: Yes; ComponentLink1URL: https://datasheet.ciiva.com/26831/sn65hvd231qdrq1-26831798.pdf?src-supplier=IIIC; ComponentLink1Description: https://datasheet.ciiva.com/26831/sn65hvd231qdrq1-26831798.pdf?src-supplier=IIIC; ComponentLink2URL: https://datasheet.ciiva.com/1766/sn65hvd230q-q1-1766618.pdf?src-supplier=Digi-Key; ComponentLink2Description: https://datasheet.ciiva.com/1766/sn65hvd230q-q1-1766618.pdf?src-supplier=Digi-Key; ComponentLink3URL: https://datasheet.ciiva.com/1766/sn65hvd230q-q1-1766619.pdf?src-supplier=Digi-Key; ComponentLink3Description: https://datasheet.ciiva.com/1766/sn65hvd230q-q1-1766619.pdf?src-supplier=Digi-Key; ComponentLink4URL: https://datasheet.ciiva.com/1766/sn65hvd230q-q1-1766620.pdf?src-supplier=Digi-Key; ComponentLink4Description: https://datasheet.ciiva.com/1766/sn65hvd230q-q1-1766620.pdf?src-supplier=Digi-Key; ComponentLink5URL: https://datasheet.ciiva.com/14424/sn65hvd232q-q1-14424394.pdf?src-supplier=Avnet; ComponentLink5Description: https://datasheet.ciiva.com/14424/sn65hvd232q-q1-14424394.pdf?src-supplier=Avnet; ComponentLink6URL: https://datasheet.ciiva.com/15150/getdatasheetpartid-373997-15150022.pdf?src-supplier=Verical; ComponentLink6Description: https://datasheet.ciiva.com/15150/getdatasheetpartid-373997-15150022.pdf?src-supplier=Verical; ComponentLink7URL: https://datasheet.ciiva.com/1598/1818609-1598776.pdf?src-supplier=Newark; ComponentLink7Description: https://datasheet.ciiva.com/1598/1818609-1598776.pdf?src-supplier=Newark; Supplier Part Number 1: 296-15380-1-ND
footprint SN65HVD231QDRQ1
pins: 1 D, 2 GND, 3 VCC, 4 R, 5 VREF, 6 CANL, 7 CANH, 8 RS

## SP1002-02JTG
designator U?
DIODE TVS ESD VRWM - 6V / VBR - 8V / VC - 16V; Manufacturer: Littelfuse; Direction: Bidirectional; Capacitance: 5pF; Number of Channels: 2; Max Surge Current: 2A; Clamping Voltage: 11.2V; Power Line Protection: No; Number of Elements: 1; Test Current: 10mA; Leakage Current: 500nA; Diode Type: ZENER; Supplier 1: Digi-Key; Manufacturer Part Number: SP1002-02JTG; RoHS: Yes; Category: TVS Diodes; Stock 1: 29509; Pricing 1: 1=0.44000, 10=0.37700, 100=0.28150, 500=0.22118, 1000=0.17092 (USD); Mount: Surface Mount; Case/Package: SC; Number of Pins: 5; Min Operating Temperature: -40°C; Max Operating Temperature: 85°C; Packaging: Tape and Reel; Reverse Breakdown Voltage: 6V; Number of Bidirectional Channels: 2; Reverse Standoff Voltage: 6V; Min Breakdown Voltage: 8V; Polarity: Bidirectional; Breakdown Voltage: 6V; Termination: SMD/SMT; Working Voltage: 6V; Peak Pulse Current: 2A; Resistor Type: Zener; Series: SP1002, SPA®; Clamping Voltage-Max: 16V; Length: 2.25mm; Width: 1.35mm; Height: 1mm; REACH SVHC: Unknown; Lead Free: Lead Free; RoHS Compliant: Yes; ComponentLink1URL: https://datasheet.ciiva.com/4509/littelfuse-spa-sp1002-0x-41082-4509048.pdf?src-supplier=Mouser; ComponentLink1Description: https://datasheet.ciiva.com/4509/littelfuse-spa-sp1002-0x-41082-4509048.pdf?src-supplier=Mouser; ComponentLink2URL: https://datasheet.ciiva.com/6578/littelfuse-tvs-diode-array-sp1002-datasheet-pdf-6578325.pdf?src-supplier=Digi-Key; ComponentLink2Description: https://datasheet.ciiva.com/6578/littelfuse-tvs-diode-array-sp1002-datasheet-pdf-6578325.pdf?src-supplier=Digi-Key; ComponentLink3URL: https://datasheet.ciiva.com/16488/littelfuse-spa-sp1002-0x-16488470.pdf?src-supplier=Future+Electronics; ComponentLink3Description: https://datasheet.ciiva.com/16488/littelfuse-spa-sp1002-0x-16488470.pdf?src-supplier=Future+Electronics; Supplier Part Number 1: F4238CT-ND
footprint SC705
pins: 1, 3, 4, 5

## STM32F103CBT6
designator U?
MCU 32-bit 128KB 2.5V/3.3V 48-Pin LQFP; Manufacturer: STMicroelectronics; RAM Size: 20KB; Max Power Dissipation: 363mW; Interface: I2C,SPI,USB,CAN,IrDA,UART,USART,LIN; Number of I/Os: 37; Number of Timers/Counters: 4; Max Supply Voltage: 3.6V; Frequency: 72MHz; Min Supply Voltage: 2V; Oscillator Type: Internal; Data Bus Width: 32b; Memory Type: FLASH; Watchdog Timer: Yes; Peripherals: POR,PWM,WDT,DMA,Temp Sensor,I2C; Core Architecture: ARM; Number of PWM Channels: 12; Number of ADC Channels: 10; Number of Bits: 32; Number of SPI Channels: 2; Supplier 1: Digi-Key; Manufacturer Part Number: STM32F103CBT6; RoHS: Yes; Category: Microcontrollers; Pricing 1: 1=6.82000, 10=6.12800, 25=5.79320, 80=5.02100, 250=4.76344, 500=4.27424, 1000=3.75498 (USD); Case/Package: LQFP; Number of Pins: 48; Contact Plating: Gold; Min Operating Temperature: -40°C; Max Operating Temperature: 85°C; Package Quantity: 250; Packaging: Tray; Number of Programmable I/O: 37; Max Frequency: 72MHz; Memory Size: 128KB; Series: STM32 F1; Density: 128KB; Number of I2C Channels: 2; Address Bus Width: 32b; Termination: SMD/SMT; Length: 7mm; Width: 7.2mm; Height: 1.45mm; Radiation Hardening: No; REACH SVHC: No SVHC; Lead Free: Lead Free; RoHS Compliant: Yes; ComponentLink1URL: https://datasheet.ciiva.com/15122/getdatasheetpartid-92132-15122195.pdf?src-supplier=Verical; ComponentLink1Description: https://datasheet.ciiva.com/15122/getdatasheetpartid-92132-15122195.pdf?src-supplier=Verical; ComponentLink2URL: https://datasheet.ciiva.com/23669/1714663-23669200.pdf?src-supplier=Newark; ComponentLink2Description: https://datasheet.ciiva.com/23669/1714663-23669200.pdf?src-supplier=Newark; ComponentLink3URL: https://datasheet.ciiva.com/26820/stm32f103cbt6-26820680.pdf?src-supplier=IIIC; ComponentLink3Description: https://datasheet.ciiva.com/26820/stm32f103cbt6-26820680.pdf?src-supplier=IIIC; ComponentLink4URL: https://datasheet.ciiva.com/5752/cd00161566-5752838.pdf?src-supplier=Farnell; ComponentLink4Description: https://datasheet.ciiva.com/5752/cd00161566-5752838.pdf?src-supplier=Farnell; ComponentLink5URL: https://datasheet.ciiva.com/1502/cd00161566-1502328.pdf?src-supplier=Digi-Key; ComponentLink5Description: https://datasheet.ciiva.com/1502/cd00161566-1502328.pdf?src-supplier=Digi-Key; ComponentLink6URL: https://datasheet.ciiva.com/4840/cd00161566-4840398.pdf?src-supplier=Mouser; ComponentLink6Description: https://datasheet.ciiva.com/4840/cd00161566-4840398.pdf?src-supplier=Mouser; ComponentLink7URL: https://datasheet.ciiva.com/16540/cd00161566-16540806.pdf?src-supplier=Avnet+Asia; ComponentLink7Description: https://datasheet.ciiva.com/16540/cd00161566-16540806.pdf?src-supplier=Avnet+Asia; ComponentLink8URL: https://datasheet.ciiva.com/16219/cd00161566-16219150.pdf?src-supplier=Future+Electronics; ComponentLink8Description: https://datasheet.ciiva.com/16219/cd00161566-16219150.pdf?src-supplier=Future+Electronics; ComponentLink9URL: https://datasheet.ciiva.com/14100/pustm-arm-microcont-stm32f103-en-14100509.pdf?src-supplier=Distrelec; ComponentLink9Description: https://datasheet.ciiva.com/14100/pustm-arm-microcont-stm32f103-en-14100509.pdf?src-supplier=Distrelec; Supplier Part Number 1: 497-6288-ND
footprint STM32F103CBT6
pins: 1 VBAT, 2 PC13 / TAMPER / RTC, 3 PC14 / OSC32_IN, 4 PC15 / OSC32_OUT, 5 PD0 / OSC_IN, 6 PD1 / OSC_OUT, 7 NRST, 8 VSSA, 9 VDDA, 10 PA0 / WKUP / USART2_CTS / ADC12_IN0 / TIM2_CH1_ETR, 11 PA1 / USART2_RTS / ADC12_IN1 / TIM2_CH2, 12 PA2 / USART2_TX / ADC12_IN2 / TIM2_CH3, 13 PA3 / USART2_RX / ADC12_IN3 / TIM2_CH4, 14 PA4 / SPI1_NSS / USART2_CK / ADC12_IN4, 15 PA5 / SPI1_SCK / ADC12_IN5, 16 PA6 / SPI1_MISO / ADC12_IN6 / TIM3_CH1 / TIM1_BKIN, 17 PA7 / SPI1_MOSI / ADC12_IN7 / TIM3_CH2 / TIM1_CH1N, 18 PB0 / ADC12_IN8 / TIM3_CH3 / TIM1_CH2N, 19 PB1 / ADC12_IN9 / TIM3_CH4 / TIM1_CH3N, 20 PB2 / BOOT1, 21 PB10 / I2C2_SCL / USART3_TX / TIM2_CH3, 22 PB11 / I2C2_SDA / USART3_RX / TIM2_CH4, 23 VSS_1, 24 VDD_1, 25 PB12 / SPI2_NSS / I2C2_SMBAI / USART3_CK / TIM1_BKIN, 26 PB13 / SPI2_SCK / USART3_CTS / TIM1_CH1N, 27 PB14 / SPI2_MISO / USART3_RTS / TIM1_CH2N, 28 PB15 / SPI2_MOSI / TIM1_CH3N, 29 PA8 / USART1_CK / TIM1_CH1 / MCO, 30 PA9 / USART1_TX / TIM1_CH2, 31 PA10 / USART1_RX / TIM1_CH3, 32 PA11 / USART1_CTS / CANRX / USBDM / TIM1_CH4, 33 PA12 / USART1_RTS / CANTX / USBDP / TIM1_ETR, 34 PA13 / JTMS / SWDIO, 35 VSS_2, 36 VDD_2, 37 PA14 / JTCK / SWCLK, 38 PA15 / JTDI / TIM2_CH1_ETR / SPI1_NSS, 39 PB3 / JTDO / TIM2_CH2 / TRACESWO / SPI1_SCK, 40 PB4 / JNTRST / TIM3_CH1 / SPI1_MISO, 41 PB5 / I2C1_SMBAI / TIM3_CH2 / SPI1_MOSI, 42 PB6 / I2C1_SCL / TIM4_CH1 / USART1_TX, 43 PB7 / I2C1_SDA / TIM4_CH2 / USART1_RX, 44 BOOT0, 45 PB8 / TIM4_CH3 / I2C1_SCL / CANRX, 46 PB9 / TIM4_CH4 / I2C1_SDA / CANTX, 47 VSS_3, 48 VDD_3

## Switch
designator S?, comment SWITCH
pins: SW1 1, SW1 3, SW1 2, SW1 4

## TAJR106M006RNJ
designator C?, comment 10uF / 6.3V
TAL CAP - 10uF 6.3V 0805 +/- 20%; Manufacturer: Kyocera AVX; Manufacturer Part Number: TAJR106M006RNJ; Dielectric Material: Tantalum; ESR (Equivalent Series Resistance): 6R; Leakage Current: 600nA; Polarity: Polar; Dissipation Factor: 8%; Supplier 1: Digi-Key; RoHS: Yes; Category: Tantalum Capacitors; Stock 1: 12500; Pricing 1: 1=0,44000, 10=0,30600, 50=0,21440, 100=0,18380, 500=0,13786, 1000=0,11641 (USD); Mount: Surface Mount,PCB; Case/Package: 0805; Number of Pins: 2; Case Code (Imperial): 0805; Case Code (Metric): 2012; Min Operating Temperature: -55°C; Max Operating Temperature: 125°C; Capacitance: 10uF; Tolerance: 20%; Voltage Rating: 6.3V; Package Quantity: 1; Packaging: Tape and Reel; Voltage Rating (DC): 6.3V; Termination: SMD/SMT; Voltage: 6.3V; Features: General Purpose; Length: 2.05mm; Width: 1.3mm; Height: 1.2mm; Depth: 1.3mm; Height - Seated (Max): 0.047inch; Lead Pitch: 0.85mm; Radiation Hardening: No; REACH SVHC: No SVHC; Lead Free: Lead Free; RoHS Compliant: Yes; ComponentLink1URL: https://datasheet.ciiva.com/264/tajlp-264013.pdf?src-supplier=Digi-Key; ComponentLink1Description: https://datasheet.ciiva.com/264/tajlp-264013.pdf?src-supplier=Digi-Key; ComponentLink2URL: https://datasheet.ciiva.com/264/tajlp-264014.pdf?src-supplier=Digi-Key; ComponentLink2Description: https://datasheet.ciiva.com/264/tajlp-264014.pdf?src-supplier=Digi-Key; ComponentLink3URL: https://datasheet.ciiva.com/264/tajlp-264015.pdf?src-supplier=Digi-Key; ComponentLink3Description: https://datasheet.ciiva.com/264/tajlp-264015.pdf?src-supplier=Digi-Key; ComponentLink4URL: https://datasheet.ciiva.com/3004/tajlp-3004573.pdf?src-supplier=Avnet; ComponentLink4Description: https://datasheet.ciiva.com/3004/tajlp-3004573.pdf?src-supplier=Avnet; ComponentLink5URL: https://datasheet.ciiva.com/11219/tajlp-11219710.pdf?src-supplier=Avnet; ComponentLink5Description: https://datasheet.ciiva.com/11219/tajlp-11219710.pdf?src-supplier=Avnet; ComponentLink6URL: https://datasheet.ciiva.com/14603/70001771-14603111.pdf?src-supplier=Allied+Electronics; ComponentLink6Description: https://datasheet.ciiva.com/14603/70001771-14603111.pdf?src-supplier=Allied+Electronics; ComponentLink7URL: https://datasheet.ciiva.com/14607/70001771-14607978.pdf?src-supplier=Allied+Electronics; ComponentLink7Description: https://datasheet.ciiva.com/14607/70001771-14607978.pdf?src-supplier=Allied+Electronics; ComponentLink8URL: https://datasheet.ciiva.com/7730/49917-7730781.pdf?src-supplier=Element14; ComponentLink8Description: https://datasheet.ciiva.com/7730/49917-7730781.pdf?src-supplier=Element14; ComponentLink9URL: https://datasheet.ciiva.com/7730/tajlp-7730988.pdf?src-supplier=Element14; ComponentLink9Description: https://datasheet.ciiva.com/7730/tajlp-7730988.pdf?src-supplier=Element14; Supplier Part Number 1: 478-3051-1-ND
footprint CT0805
pins: 1, 2